# Altium footprint library SSOP (16).PcbLib: 1 footprints
Each footprint in its own frame and in the unit in brackets; x right, y up, seen from the top. Pads: shape width x height; smd on the part's side, far side on the other; paste and mask are expansions set on the pad; w line width, h text height; cw(c..) or ccw(c..) is an arc to the next point about the centre after c.
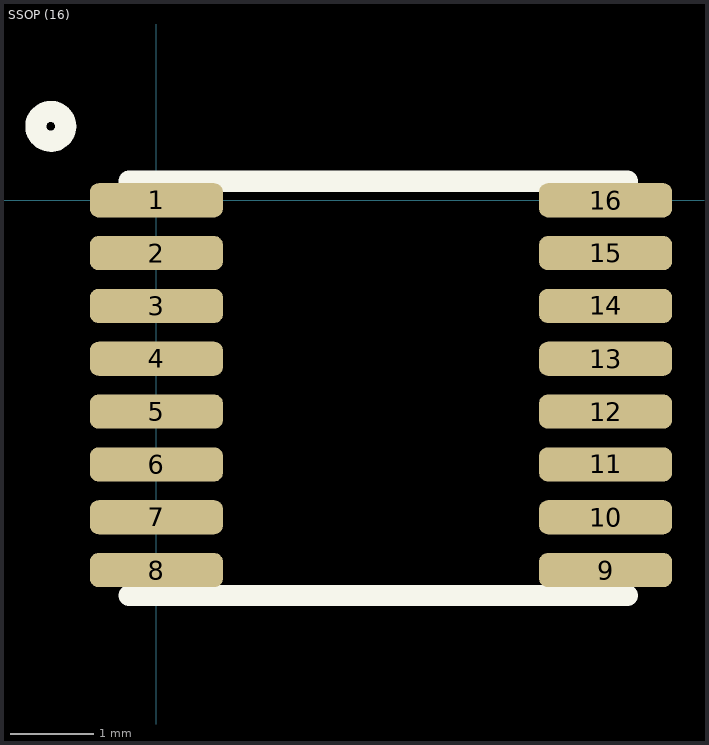
[diagram p0: the footprint, top view; thin cyan lines are the x and y axes]

## SSOP (16) [mm] "4.9 mm x 3.90 mm"
height 1.75
pads (16):
  rrect50% 1.6x0.41 smd: 1(0,0) 2(0,-0.635) 3(0,-1.27) 4(0,-1.905) 5(0,-2.54) 6(0,-3.175) 7(0,-3.81) 8(0,-4.445) 9(5.4,-4.445) 10(5.4,-3.81) 11(5.4,-3.175) 12(5.4,-2.54) 13(5.4,-1.905) 14(5.4,-1.27) 15(5.4,-0.635) 16(5.4,0)
Top Overlay:
  circle w0.254: c-1.27,0.889 r0.18
  lines w0.254: -0.33,-4.749 5.664,-4.749 ; -0.33,0.229 5.664,0.229
3D body "User Library-SSOP16.step": height 1.08, standoff -0.02, extent -0.33,-4.749 5.664,0.229